# Altium schematic symbol library Fuses.SchLib: 7 symbols
Pins are listed as number, name and electrical type; pins without a type are passive.

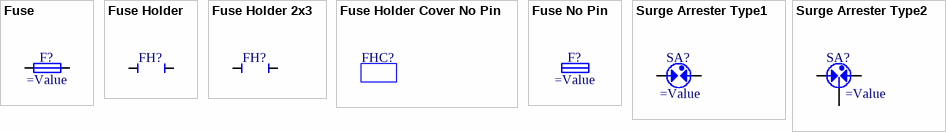
[diagram p0: symbols Fuse to Surge Arrester Type2]

## Fuse
designator F?
Fuse
pins: 1, 2

## Fuse Holder
designator FH?
Fuse Holder
pins: 1, 2

## Fuse Holder 2x3
designator FH?
Fuse Holder 2x3
pins: 1, 2, 3, 4, 5, 6

## Fuse Holder Cover No Pin
designator FHC?
Fuse Holder Cover No Pin

## Fuse No Pin
designator F?
Fuse

## Surge Arrester Type1
designator SA?
Surge Arrester
pins: 1, 2

## Surge Arrester Type2
designator SA?
Surge Arrester
pins: 1, 2, 3